# EAGLE library part MCP346X-E/ST (library MCP346XRT-EST)
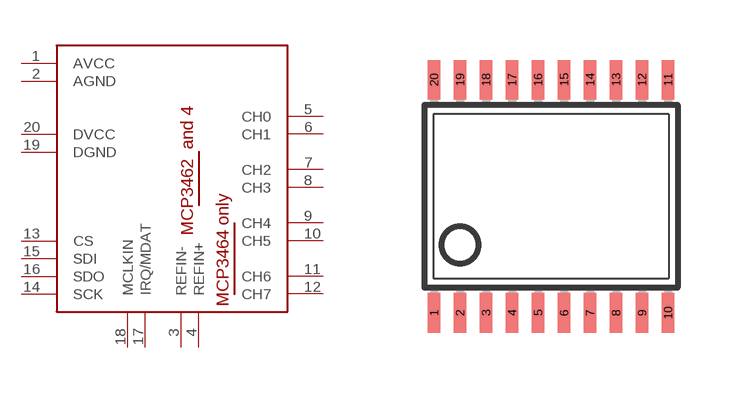
[diagram p0: symbol with the pads of TSSOP20; footprint TSSOP20]

Designator prefix -

## MCP346X-E/ST (PURCHASE_URL_DIGIKEY: https://www.digikey.ca/en/products/detail/microchip-technology/MCP3462RT-E-ST/12807587)  [TSSOP20]
1  AVCC
2  AGND
3  REFIN-
4  REFIN+
5  CH0
6  CH1
7  CH2
8  CH3
9  CH4
10  CH5
11  CH6
12  CH7
13  CS
14  SCK
15  SDI
16  SDO
17  IRQ/MDAT
18  MCLKIN
19  DGND
20  DVCC

## Footprint TSSOP20 (pad centres in mm)
Thin Shrink Small Outline Plastic 20 MAX3223-MAX3243.pdf
smd 0.305 x 0.991: 1 -2.925,-2.918; 2 -2.275,-2.918; 3 -1.625,-2.918; 4 -0.975,-2.918; 5 -0.325,-2.918; 6 0.325,-2.918; 7 0.975,-2.918; 8 1.625,-2.918; 9 2.275,-2.918; 10 2.925,-2.918; 11 2.925,2.918; 12 2.275,2.918; 13 1.625,2.918; 14 0.975,2.918; 15 0.325,2.918; 16 -0.325,2.918; 17 -0.975,2.918; 18 -1.625,2.918; 19 -2.275,2.918; 20 -2.925,2.918